# Altium footprint library PcbLib1.PcbLib: 12 footprints
Each footprint in its own frame and in the unit in brackets; x right, y up, seen from the top. Pads: shape width x height; smd on the part's side, far side on the other; paste and mask are expansions set on the pad; w line width, h text height; cw(c..) or ccw(c..) is an arc to the next point about the centre after c.
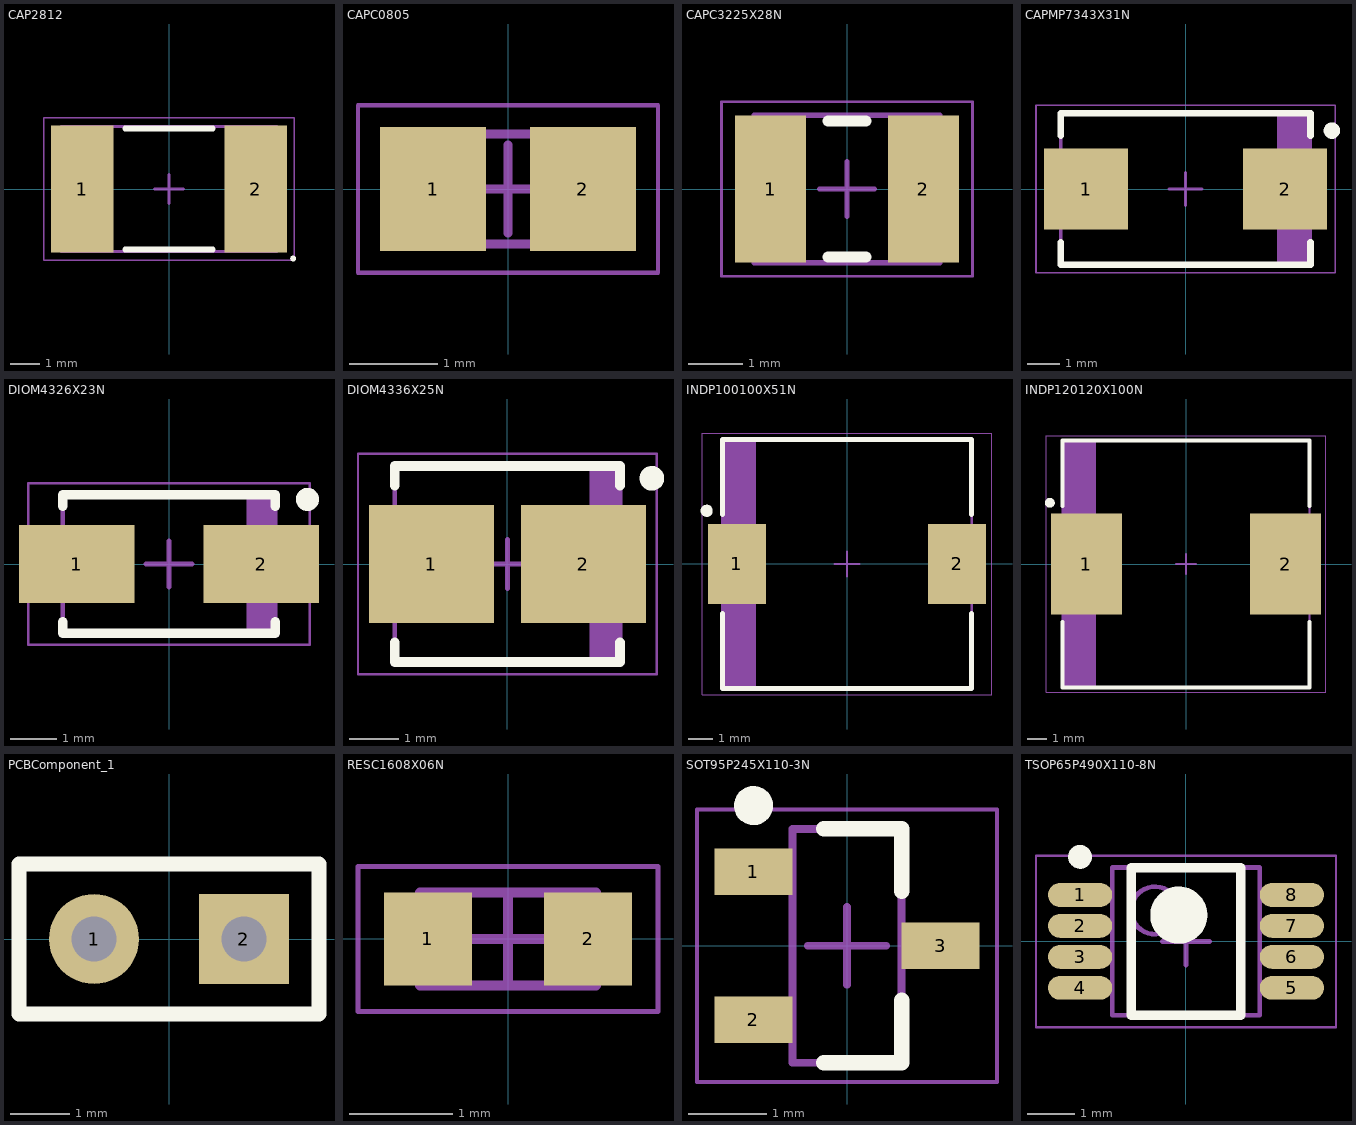
[diagram p0: the footprints below, top view; thin cyan lines are the x and y axes]

## CAP2812 [mm] "Chip Capacitor, 2-Leads, Body 7.10x4.15mm, IPC Medium Density"
height 3.1
pads (2):
  rect 2.15x4.35 smd: 1(-2.975,0) 2(2.975,0)
Top Overlay:
  circle w0.1: c4.262,-2.387 r0.05
  lines w0.2: -1.5,-2.075 1.5,-2.075 ; -1.5,2.075 1.5,2.075
Mechanical 13:
  lines w0.1: -3.7,-2.15 3.7,-2.15 3.7,2.15 -3.7,2.15 -3.7,-2.15
Mechanical 15:
  lines w0.05: -4.3,-2.45 4.3,-2.45 4.3,2.45 -4.3,2.45 -4.3,-2.45
  lines w0.1: -0.5,0 0.5,0 ; 0,-0.5 0,0.5
3D body "CAP2812.step": height 3.1, standoff 0, extent -3.7,-2.15 3.7,2.15

## CAPC0805 [mm]
height 1.4
pads (2):
  rect 1.2x1.4 smd: 1(-0.85,0) 2(0.85,0)
Mechanical 13:
  lines w0.1: -1,-0.625 -1,0.625 1,0.625 1,-0.625 -1,-0.625
Mechanical 15:
  lines w0.05: -1.7,-0.95 -1.7,0.95 1.7,0.95 1.7,-0.95 -1.7,-0.95
  lines w0.1: -0.5,0 0.5,0 ; 0,-0.5 0,0.5
3D body "CAPC2012X14N.step": height 1.4, standoff 0, extent -1,-0.625 1,0.625

## CAPC3225X28N [mm] "Chip Capacitor, 2-Leads, Body 3.20x2.50mm, IPC Medium Density"
height 2.8
pads (2):
  rect 1.3x2.7 smd: 1(-1.4,0) 2(1.4,0)
Top Overlay:
  lines w0.2: -0.35,-1.25 0.35,-1.25 ; -0.35,1.25 0.35,1.25
Mechanical 13:
  lines w0.1: -1.7,-1.35 1.7,-1.35 1.7,1.35 -1.7,1.35 -1.7,-1.35
Mechanical 15:
  lines w0.05: -2.3,-1.6 2.3,-1.6 2.3,1.6 -2.3,1.6 -2.3,-1.6
  lines w0.1: -0.5,0 0.5,0 ; 0,-0.5 0,0.5
3D body "CAPC3225X28N.step": height 2.8, standoff 0, extent -1.7,-1.35 1.7,1.35

## CAPMP7343X31N [mm] "Molded Capacitor, 2-Leads, Body 7.30x4.30mm, IPC Medium Density"
height 3.1
pads (2):
  rect 2.55x2.45 smd: 1(-3.025,0) 2(3.025,0)
Top Overlay:
  circle w0.25: c4.45,1.775 r0.125
  lines w0.2: -3.8,-1.625 -3.8,-2.3 3.8,-2.3 3.8,-1.625 ; -3.8,1.625 -3.8,2.3 3.8,2.3 3.8,1.625
Mechanical 13:
  rectangle: 2.778,-2.3 3.8,2.3
  lines w0.1: -3.8,-2.3 -3.8,2.3 3.8,2.3 3.8,-2.3 -3.8,-2.3
Mechanical 15:
  lines w0.05: -4.55,-2.55 -4.55,2.55 4.55,2.55 4.55,-2.55 -4.55,-2.55
  lines w0.1: -0.5,0 0.5,0 ; 0,-0.5 0,0.5
3D body "D-CASE.stp": height 2.86, standoff -0.06, extent -3.588,-2.2 3.6,2.216

## DIOM4326X23N [mm] "Molded Diode, 2-Leads, Body 4.30x2.61mm, IPC Medium Density"
height 2.3
pads (2):
  rect 2.5x1.7 smd: 1(-2,0) 2(2,0)
Top Overlay:
  circle w0.25: c3,1.4 r0.125
  lines w0.2: -2.3,-1.25 -2.3,-1.5 2.3,-1.5 2.3,-1.25 ; -2.3,1.25 -2.3,1.5 2.3,1.5 2.3,1.25
Mechanical 13:
  rectangle: 1.681,-1.46 2.3,1.46
  lines w0.1: -2.3,-1.46 -2.3,1.46 2.3,1.46 2.3,-1.46 -2.3,-1.46
Mechanical 15:
  lines w0.05: -3.05,-1.75 -3.05,1.75 3.05,1.75 3.05,-1.75 -3.05,-1.75
  lines w0.1: -0.5,0 0.5,0 ; 0,-0.5 0,0.5
3D body "DIOM4326X23N.step": height 2.3, standoff 0, extent -2.52,-1.46 2.52,1.46

## DIOM4336X25N [mm] "Molded Diode, 2-Leads, Body 4.33x3.63mm, IPC Medium Density"
height 2.47
pads (2):
  rect 2.55x2.4 smd: 1(-1.55,0) 2(1.55,0)
Top Overlay:
  circle w0.25: c2.95,1.75 r0.125
  lines w0.2: -2.3,-1.6 -2.3,-2 2.3,-2 2.3,-1.6 ; -2.3,1.6 -2.3,2 2.3,2 2.3,1.6
Mechanical 13:
  rectangle: 1.681,-1.975 2.3,1.975
  lines w0.1: -2.3,-1.975 2.3,-1.975 2.3,1.975 -2.3,1.975 -2.3,-1.975
Mechanical 15:
  lines w0.05: -3.05,-2.25 3.05,-2.25 3.05,2.25 -3.05,2.25 -3.05,-2.25
  lines w0.1: -0.5,0 0.5,0 ; 0,-0.5 0,0.5
3D body "DIOM4336X25N.step": height 2.47, standoff 0, extent -2.52,-1.975 2.52,1.975

## INDP100100X51N [mm] "Precision Wire Wound Inductor, 2-Leads, Body 10.00x10.00mm, IPC Medium Density"
height 5.1
pads (2):
  rect 2.4x3.3 smd: 1(-4.55,0) 2(4.55,0)
Top Overlay:
  circle w0.25: c-5.8,2.2 r0.125
  lines w0.2: -5.15,-2.05 -5.15,-5.15 5.15,-5.15 5.15,-2.05 ; -5.15,2.05 -5.15,5.15 5.15,5.15 5.15,2.05
Mechanical 13:
  rectangle: -5.15,-5.15 -3.765,5.15
  lines w0.1: -5.15,-5.15 -5.15,5.15 5.15,5.15 5.15,-5.15 -5.15,-5.15
Mechanical 15:
  lines w0.05: -5.975,-5.4 -5.975,5.4 5.975,5.4 5.975,-5.4 -5.975,-5.4
  lines w0.1: -0.5,0 0.5,0 ; 0,-0.5 0,0.5
3D body "INDP100100X51N.step": height 5.2, standoff 0, extent -5.1,-5 5.1,5

## INDP120120X100N [mm] "Precision Wire Wound Inductor, 2-Leads, Body 12.00x12.00mm, IPC Medium Density"
height 10
pads (2):
  rect 3.6x5.1 smd: 1(-5.05,0) 2(5.05,0)
Top Overlay:
  circle w0.25: c-6.9,3.1 r0.125
  lines w0.2: -6.25,-2.95 -6.25,-6.25 6.25,-6.25 6.25,-2.95 ; -6.25,2.95 -6.25,6.25 6.25,6.25 6.25,2.95
Mechanical 13:
  rectangle: -6.25,-6.25 -4.569,6.25
  lines w0.1: -6.25,-6.25 -6.25,6.25 6.25,6.25 6.25,-6.25 -6.25,-6.25
Mechanical 15:
  lines w0.05: -7.075,-6.5 -7.075,6.5 7.075,6.5 7.075,-6.5 -7.075,-6.5
  lines w0.1: -0.5,0 0.5,0 ; 0,-0.5 0,0.5
3D body "INDP120120X100N.step": height 10.1, standoff 0, extent -6.1,-6 6.1,6

## PCBComponent_1 [mil]
pads (2):
  round 60 hole 30: 1(-50,0)
  rect 60x60 / inner round 60 / far side round 60 hole 30: 2(50,0)
Top Overlay:
  lines w10: -100,-50 100,-50 100,50 -100,50 -100,-50
3D body "PLS-2_(DS1021_CONNFLY).stp": height 342.52, standoff -118.11, extent -100,-50 100,50

## RESC1608X06N [mm] "Chip Resistor, 2-Leads, Body 1.60x0.80mm, IPC Medium Density"
height 0.55
pads (2):
  rect 0.85x0.9 smd: 1(-0.775,0) 2(0.775,0)
Mechanical 13:
  lines w0.1: -0.85,-0.45 0.85,-0.45 0.85,0.45 -0.85,0.45 -0.85,-0.45
Mechanical 15:
  lines w0.05: -1.45,-0.7 1.45,-0.7 1.45,0.7 -1.45,0.7 -1.45,-0.7
  lines w0.1: -0.45,0 0.45,0 ; 0,-0.45 0,0.45
3D body "RESC1608X06N.step": height 0.55, standoff 0, extent -0.85,-0.45 0.85,0.45

## SOT95P245X110-3N [mm] "SOT23, 3-Leads, Body 2.90x2.45mm, Pitch 0.95mm, IPC Medium Density"
height 1.1
pads (3):
  rect 1x0.6 smd: 1(-1.2,0.95) 2(-1.2,-0.95) 3(1.2,0)
Top Overlay:
  circle w0.25: c-1.2,1.8 r0.125
  lines w0.2: -0.3,-1.5 0.7,-1.5 0.7,-0.7 ; -0.3,1.5 0.7,1.5 0.7,0.7
Mechanical 13:
  lines w0.1: -0.7,-1.5 -0.7,1.5 0.7,1.5 0.7,-1.5 -0.7,-1.5
Mechanical 15:
  lines w0.05: -1.925,-1.75 -1.925,1.75 1.925,1.75 1.925,-1.75 -1.925,-1.75
  lines w0.1: -0.5,0 0.5,0 ; 0,-0.5 0,0.5
3D body "SOT95P245X110-3N.step": height 1.1, standoff 0, extent -1.3,-1.5 1.3,1.5

## TSOP65P490X110-8N [mm] "TSOP, 8-Leads, Body 3.00x3.00mm, Pitch 0.65mm, IPC Medium Density"
height 1.1
pads (8):
  oval 1.35x0.5 smd: 1(-2.225,0.975) 2(-2.225,0.325) 3(-2.225,-0.325) 4(-2.225,-0.975) 5(2.225,-0.975) 6(2.225,-0.325) 7(2.225,0.325) 8(2.225,0.975)
Top Overlay:
  circle w0.25: c-2.225,1.775 r0.125
  circle w0.6: c-0.15,0.55 r0.3
  lines w0.2: -1.15,-1.55 -1.15,1.55 1.15,1.55 1.15,-1.55 -1.15,-1.55
Mechanical 13:
  circle w0.1: c-0.65,0.65 r0.5
  lines w0.1: -1.55,-1.55 -1.55,1.55 1.55,1.55 1.55,-1.55 -1.55,-1.55
Mechanical 15:
  lines w0.05: -3.15,-1.8 -3.15,1.8 3.15,1.8 3.15,-1.8 -3.15,-1.8
  lines w0.1: -0.5,0 0.5,0 ; 0,-0.5 0,0.5
3D body "TSOP65P490X110-8N.step": height 1.1, standoff 0, extent -2.45,-1.55 2.45,1.55